# Altium footprint library TB.PcbLib: 2 footprints
Each footprint in its own frame and in the unit in brackets; x right, y up, seen from the top. Pads: shape width x height; smd on the part's side, far side on the other; paste and mask are expansions set on the pad; w line width, h text height; cw(c..) or ccw(c..) is an arc to the next point about the centre after c.
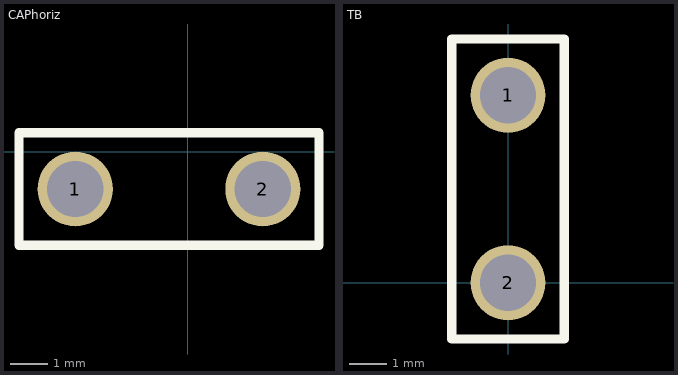
[diagram p0: the footprints below, top view; thin cyan lines are the x and y axes]

## CAPhoriz [mil] "SOT23, 3-Leads, Body 3.0x2.6mm (max), Pitch 0.95mm, IPC Medium Density"
height 43.31
pads (2):
  round 80 hole 60: 1(-120,-40) 2(80,-40)
Top Overlay:
  lines w10: -180,-100 -180,20 140,20 140,-100 -180,-100

## TB [mil]
pads (2):
  round 80 hole 60: 1(0,200) 2(0,0)
Top Overlay:
  lines w10: -60,-60 -60,260 60,260 60,-60 -60,-60